# EAGLE library part MOSFET-DUAL-N-BS138PS (library FaBo-Mosfet)
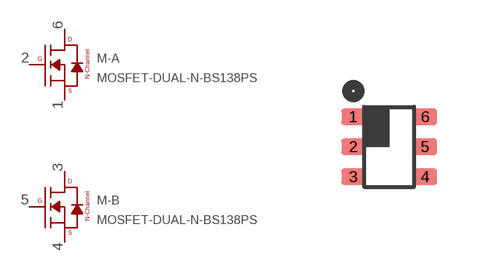
[diagram p1: symbol with the pads of SOT-363; footprint SOT-363]

Designator prefix M; gates -A=MOSFET(N-CHANNEL) -B=MOSFET(N-CHANNEL)

## MOSFET-DUAL-N-BS138PS  [SOT-363]
1  -A:S  pas
2  -A:G  pas
3  -B:D  pas
4  -B:S  pas
5  -B:G  pas
6  -A:D  pas

## Footprint SOT-363 (pad centres in mm)
smd 0.6 x 0.4: 1 -0.9,0.75; 2 -0.9,0; 3 -0.9,-0.75; 4 0.9,-0.75; 5 0.9,0; 6 0.9,0.75